# EAGLE library part DG9411DL-T1-E3 (library Vishay_By_element14_Batch_1)
Low-Voltage Single SPDT Analog Switch
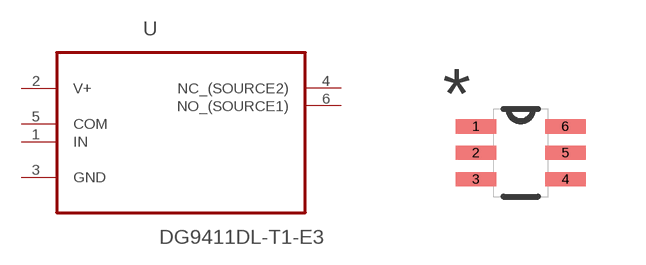
[diagram p68: symbol with the pads of SOT65P210X110-6N; footprint SOT65P210X110-6N]

Designator prefix U

## DG9411DL-T1-E3 (MPN: DG9411DL-T1-E3; OC_FARNELL: -; OC_NEWARK: 49K9704; PACKAGE: SC-70-6; SUPPLIER: VISHAY SILICONIX)  [SOT65P210X110-6N]
1  IN  in
2  V+  pwr
3  GND  pas
4  NC_(SOURCE2)  out
5  COM  in
6  NO_(SOURCE1)  out

## Footprint SOT65P210X110-6N (pad centres in mm)
smd 1.016 x 0.356: 1 -1.118,0.66; 2 -1.118,0; 3 -1.118,-0.66; 4 1.118,-0.66; 5 1.118,0; 6 1.118,0.66